# Altium footprint library SO_package.PcbLib: 34 footprints (part 3 of 3)
Each footprint in its own frame and in the unit in brackets; x right, y up, seen from the top. Pads: shape width x height; smd on the part's side, far side on the other; paste and mask are expansions set on the pad; w line width, h text height; cw(c..) or ccw(c..) is an arc to the next point about the centre after c.
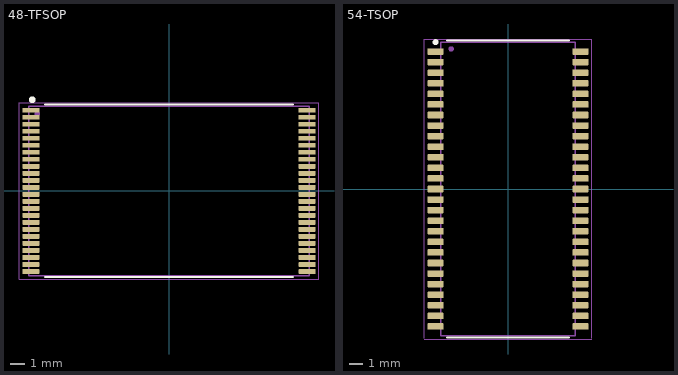
[diagram p2: the footprints below, top view; thin cyan lines are the x and y axes]

## 48-TFSOP [mm] "TSSOP, 48-Leads, Body 12,00x18,40mm, Pitch 0,50mm, IPC Medium Density"
height 1.2
pads (48):
  rrect25% 1.2x0.35 smd: 1(-9.85,5.75) 2(-9.85,5.25) 3(-9.85,4.75) 4(-9.85,4.25) 5(-9.85,3.75) 6(-9.85,3.25) 7(-9.85,2.75) 8(-9.85,2.25) 9(-9.85,1.75) 10(-9.85,1.25) 11(-9.85,0.75) 12(-9.85,0.25) 13(-9.85,-0.25) 14(-9.85,-0.75) 15(-9.85,-1.25) 16(-9.85,-1.75) 17(-9.85,-2.25) 18(-9.85,-2.75) 19(-9.85,-3.25) 20(-9.85,-3.75) 21(-9.85,-4.25) 22(-9.85,-4.75) 23(-9.85,-5.25) 24(-9.85,-5.75) 25(9.85,-5.75) 26(9.85,-5.25) 27(9.85,-4.75) 28(9.85,-4.25) 29(9.85,-3.75) 30(9.85,-3.25) 31(9.85,-2.75) 32(9.85,-2.25) 33(9.85,-1.75) 34(9.85,-1.25) 35(9.85,-0.75) 36(9.85,-0.25) 37(9.85,0.25) 38(9.85,0.75) 39(9.85,1.25) 40(9.85,1.75) 41(9.85,2.25) 42(9.85,2.75) 43(9.85,3.25) 44(9.85,3.75) 45(9.85,4.25) 46(9.85,4.75) 47(9.85,5.25) 48(9.85,5.75)
Top Overlay:
  lines w0.15: -8.85,-6.15 8.85,-6.15 ; -8.85,6.15 8.85,6.15
  lines w0.254: -9.644,6.535 ccw(c-9.75,6.5) -9.64,6.522
Top Assembly (Mech13):
  circle w0.2: c-9.4,5.5 r0.1
  lines w0.1: -10,-6.05 -10,6.05 10,6.05 10,-6.05 -10,-6.05
  text ".Designator" at -4.998,-0.333 h1
Top Courtyard:
  lines w0.05: -10.7,-6.3 -10.7,6.3 10.7,6.3 10.7,-6.3 -10.7,-6.3
3D body "48-TFSOP.step": height 1.2, standoff 0, extent -10,-6.05 10,6.05

## 54-TSOP [mm] "TSSOP, 48-Leads, Body 12,00x18,40mm, Pitch 0,50mm, IPC Medium Density"
height 1.2
pads (54):
  rrect25% 1.2x0.5 smd: 1(-5.48,10.4) 2(-5.48,9.6) 3(-5.48,8.8) 4(-5.48,8) 5(-5.48,7.2) 6(-5.48,6.4) 7(-5.48,5.6) 8(-5.48,4.8) 9(-5.48,4) 10(-5.48,3.2) 11(-5.48,2.4) 12(-5.48,1.6) 13(-5.48,0.8) 14(-5.48,0) 15(-5.48,-0.8) 16(-5.48,-1.6) 17(-5.48,-2.4) 18(-5.48,-3.2) 19(-5.48,-4) 20(-5.48,-4.8) 21(-5.48,-5.6) 22(-5.48,-6.4) 23(-5.48,-7.2) 24(-5.48,-8) 25(-5.48,-8.8) 26(-5.48,-9.6) 27(-5.48,-10.4) 28(5.48,-10.4) 29(5.48,-9.6) 30(5.48,-8.8) 31(5.48,-8) 32(5.48,-7.2) 33(5.48,-6.4) 34(5.48,-5.6) 35(5.48,-4.8) 36(5.48,-4) 37(5.48,-3.2) 38(5.48,-2.4) 39(5.48,-1.6) 40(5.48,-0.8) 41(5.48,0) 42(5.48,0.8) 43(5.48,1.6) 44(5.48,2.4) 45(5.48,3.2) 46(5.48,4) 47(5.48,4.8) 48(5.48,5.6) 49(5.48,6.4) 50(5.48,7.2) 51(5.48,8) 52(5.48,8.8) 53(5.48,9.6) 54(5.48,10.4)
Top Overlay:
  circle w0.254: c-5.48,11.11 r0.1
  lines w0.15: -4.6,-11.25 4.6,-11.25 ; -4.6,11.25 4.6,11.25
Top Assembly (Mech13):
  circle w0.2: c-4.3,10.6 r0.1
  lines w0.1: -5.08,-11.1 5.08,-11.1 5.08,11.1 -5.08,11.1 -5.08,-11.1
  text ".Designator" at -4.998,-0.333 h1
Top Courtyard:
  lines w0.05: -6.35,-11.35 6.35,-11.35 ; -6.35,-11.3 -6.35,11.35 6.35,11.35 6.35,-11.3
3D body: height 1.2, standoff 0, extent -5.08,-11.11 5.08,11.1